# EAGLE library part IC_ULN2003 (library dp_devices)
7 Darlington Array Driver
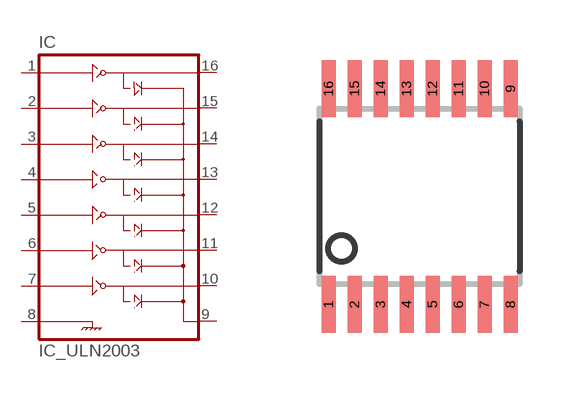
[diagram p101: symbol with the pads of TSSOP-16; footprint TSSOP-16]

Designator prefix IC

## IC_ULN2003-TSSOP-16  [TSSOP-16]
1  1B
2  2B
3  3B
4  4B
5  5B
6  6B
7  7B
8  GND
9  COM
10  7C
11  6C
12  5C
13  4C
14  3C
15  2C
16  1C

## Footprint TSSOP-16 (pad centres in mm)
smd 0.35 x 1.43: 1 -2.275,-2.7; 2 -1.625,-2.7; 3 -0.975,-2.7; 4 -0.325,-2.7; 5 0.325,-2.7; 6 0.975,-2.7; 7 1.625,-2.7; 8 2.275,-2.7; 9 2.275,2.7; 10 1.625,2.7; 11 0.975,2.7; 12 0.325,2.7; 13 -0.325,2.7; 14 -0.975,2.7; 15 -1.625,2.7; 16 -2.275,2.7